# Altium footprint library PcbLib1.PcbLib: 1 footprints
Each footprint in its own frame and in the unit in brackets; x right, y up, seen from the top. Pads: shape width x height; smd on the part's side, far side on the other; paste and mask are expansions set on the pad; w line width, h text height; cw(c..) or ccw(c..) is an arc to the next point about the centre after c.
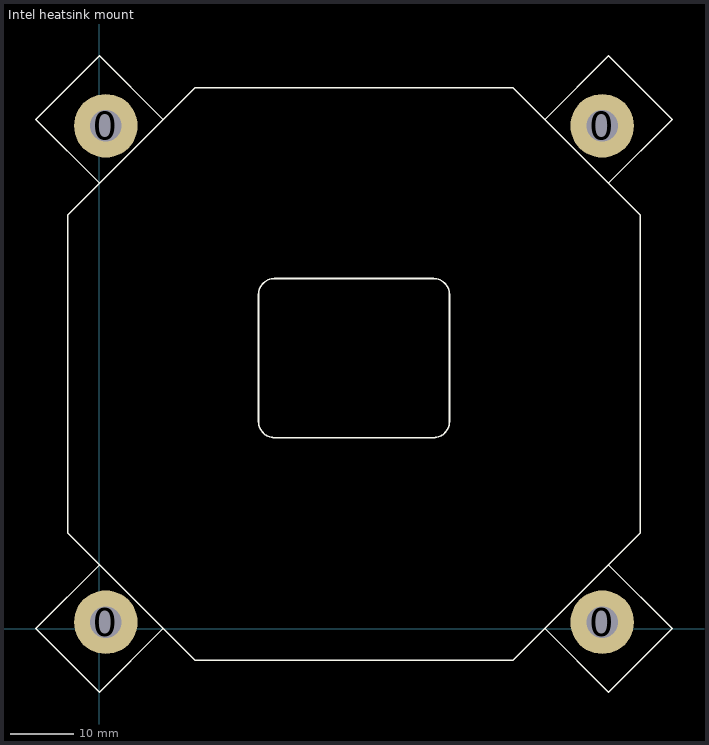
[diagram p0: the footprint, top view; thin cyan lines are the x and y axes]

## Intel heatsink mount [mm]
pads (4):
  round 10 hole 5: 0(1,1) 0(1,79) 0(79,1) 0(79,79)
Top Overlay:
  lines w0.254: 0,10 -10,0 0,-10 10,0 ; 0,70 -10,80 0,90 10,80 ; 70,0 80,-10 90,0 80,10 ; 70,80 80,90 90,80 80,70 ; -5,15 -5,65 15,85 65,85 85,65 85,15 65,-5 15,-5 -5,15 ; 25,32.5 ccw(c27.5,32.5) 27.5,30 52.5,30 ccw(c52.5,32.5) 55,32.5 55,52.5 ccw(c52.5,52.5) 52.5,55 27.5,55 ccw(c27.5,52.5) 25,52.5 25,32.5
3D body "Coolserver LGA1700 R64 v21.step": height 67.25, standoff -11.2, extent -5.574,-4.812 85.969,85.076